# Altium integrated library Connectors.IntLib: 18 symbols
Pins are listed as number, name and electrical type; pins without a type are passive.

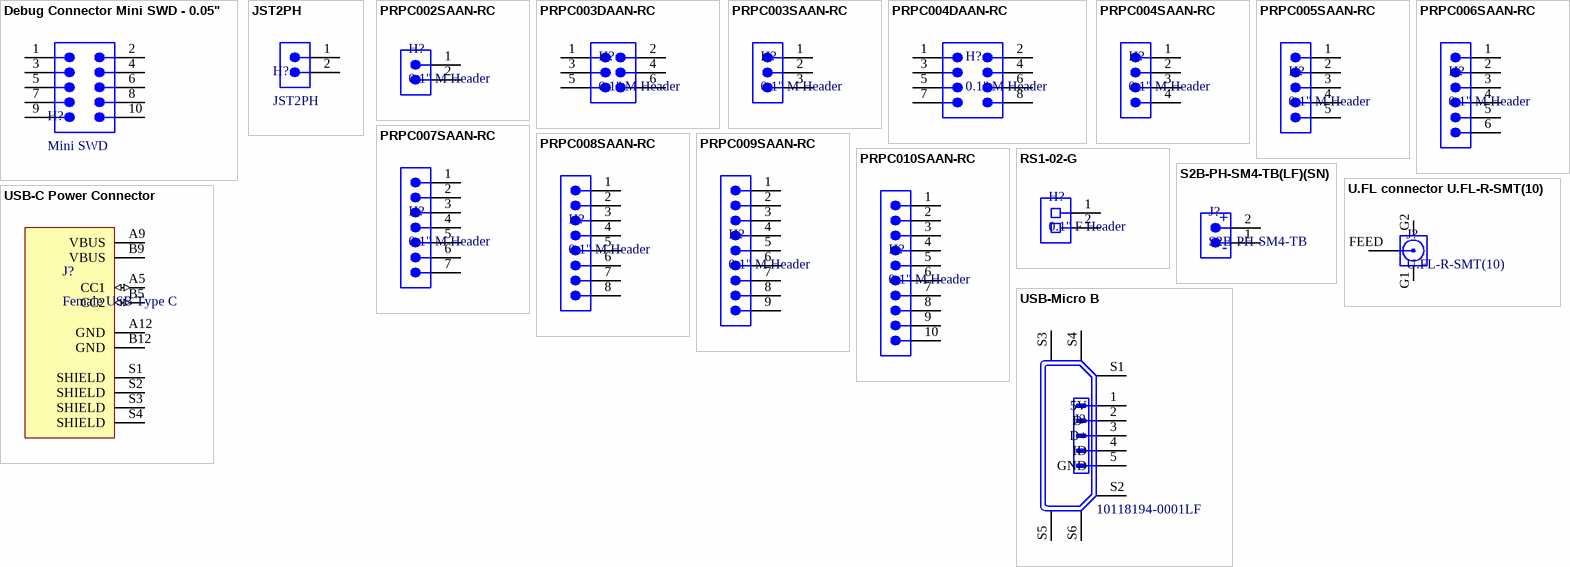
[diagram p0: symbols Debug Connector Mini SWD - 0.05" to USB-Micro B]

## Debug Connector Mini SWD - 0.05"
designator H?, comment Mini SWD
Mini SWD 0.05" Pitch Connector - 10 Pin SMT Box Header; Manufacturer: Adafruit Industries; Manufacturer Part Number: 4048; Supplier 1: Digi-Key; RoHS: No; Category: Connectors; Stock 1: 201; Pricing 1: 1=1.95000 (USD); ComponentLink1URL: https://media.digikey.com/pdf/Data%20Sheets/Adafruit%20PDFs/4048_Web.pdf?src-supplier=Digi-Key; ComponentLink1Description: https://media.digikey.com/pdf/Data%20Sheets/Adafruit%20PDFs/4048_Web.pdf?src-supplier=Digi-Key
footprint FTSH-105-01-XXX-DV-K
pins: 1, 2, 3, 4, 5, 6, 7, 8, 9, 10

## JST2PH
designator H?
Connector Header Through Hole 2 position 0.079" (2.00mm); Manufacturer: JST; Manufacturer Part Number: B2B-PH-K-S; Supplier: Digi-Key; Supplier Part Number: 455-1704-ND; RoHS: Yes; Category: Connectors; Stock: 1077617; Pricing: 1=0.19, 10=0.147, 100=0.1088, 500=0.09006, 1000=0.0788, 5000=0.06754, 10000=0.06567 (USD); ComponentLink1URL: https://datasheet.ciiva.com/6905/phseries-6905929.pdf?src-supplier=Digi-Key; ComponentLink1Description: https://datasheet.ciiva.com/6905/phseries-6905929.pdf?src-supplier=Digi-Key
footprint JST_B2B-PH-K-S(LF)(SN)
pins: 1, 2

## PRPC002SAAN-RC
designator H?, comment 0.1" M Header
CONN HEADER VERT 2POS 2.54MM; Manufacturer: Sullins; Manufacturer Part Number: PRPC002SAAN-RC; Connector Type: Header, Unshrouded, Breakaway; Number of Positions: 2; Number of Positions Loaded: All; Pitch: 0.100" (2.54mm); Online Catalog: 0.100" (2.54mm) Pitch Connector Headers; Other Names: S9510E-02  S9510E-02-ND; Supplier 1: Digi-Key; Stock 1: 42739; Pricing 1: 1=0.08, 10=0.073, 25=0.054, 50=0.0464, 100=0.0449, 250=0.0387, 500=0.0372 (USD); Standard Package: 1; Category: Connectors, Interconnects; Family: Rectangular Connectors - Headers, Male Pins; Series: -; Packaging: Bulk; Contact Type: Male Pin; Number of Rows: 1; Row Spacing: -; Contact Mating Length: 0.230" (5.84mm); Mounting Type: Through Hole; Termination: Solder; Fastening Type: -; Features: -; Contact Finish: Gold; Contact Finish Thickness: Flash; Color: Black; ComponentLink1URL: https://media.digikey.com/PDF/Data%20Sheets/Sullins%20PDFs/xRxCzzzSxxN-RC_ST_11635-B.pdf?src-supplier=Digi-Key; ComponentLink1Description: https://media.digikey.com/PDF/Data%20Sheets/Sullins%20PDFs/xRxCzzzSxxN-RC_ST_11635-B.pdf?src-supplier=Digi-Key; Supplier Part Number 1: S1011EC-02-ND
footprint 2-PIN_MALE_HEADER_01-IN (Terminal Assembly, 1x2 Pins, Vertical, 2.54mm Pitch, Male)
pins: 1, 2

## PRPC003DAAN-RC
designator H?, comment 0.1" M Header
CONN HEADER Dual 6POS 2.54MM; Manufacturer: Sullins; Manufacturer Part Number: PRPC003DAAN-RC; Connector Type: Header, Unshrouded, Breakaway; Number of Positions: 6; Number of Positions Loaded: All; Pitch: 0.100" (2.54mm); Online Catalog: 0.100" (2.54mm) Pitch Connector Headers; Other Names: S9511E-03  S9511E-03-ND; Supplier 1: Digi-Key; Stock 1: 4304; Pricing 1: 1=0.19, 10=0.174, 25=0.1488, 50=0.13, 100=0.1207, 250=0.1068, 500=0.1022 (USD); Standard Package: 1; Category: Connectors, Interconnects; Family: Rectangular Connectors - Headers, Male Pins; Series: -; Packaging: Bulk; Contact Type: Male Pin; Number of Rows: 2; Row Spacing: 0.100" (2.54mm); Contact Mating Length: 0.230" (5.84mm); Mounting Type: Through Hole; Termination: Solder; Fastening Type: -; Features: -; Contact Finish: Gold; Contact Finish Thickness: Flash; Color: Black; ComponentLink1URL: https://drawings-pdf.s3.amazonaws.com/11636.pdf?src-supplier=Digi-Key; ComponentLink1Description: https://drawings-pdf.s3.amazonaws.com/11636.pdf?src-supplier=Digi-Key; Supplier Part Number 1: S2011EC-03-ND
footprint 6-PIN_DUAL_MALE_HEADER_01-IN (Terminal Assembly, 2x3 Pins, Vertical, 2.54mm Pitch, Male)
pins: 1, 2, 3, 4, 5, 6

## PRPC003SAAN-RC
designator H?, comment 0.1" M Header
CONN HEADER VERT 3POS 2.54MM; Manufacturer: Sullins; Manufacturer Part Number: PRPC003SAAN-RC; Connector Type: Header, Unshrouded, Breakaway; Number of Positions: 3; Number of Positions Loaded: All; Pitch: 0.100" (2.54mm); Online Catalog: 0.100" (2.54mm) Pitch Connector Headers; Other Names: S9510E-03  S9510E-03-ND; Supplier 1: Digi-Key; Stock 1: 19067; Pricing 1: 1=0.12, 10=0.109, 25=0.0812, 50=0.0696, 100=0.0673, 250=0.058, 500=0.0557 (USD); Standard Package: 1; Category: Connectors, Interconnects; Family: Rectangular Connectors - Headers, Male Pins; Series: -; Packaging: Bulk; Contact Type: Male Pin; Number of Rows: 1; Row Spacing: -; Contact Mating Length: 0.230" (5.84mm); Mounting Type: Through Hole; Termination: Solder; Fastening Type: -; Features: -; Contact Finish: Gold; Contact Finish Thickness: Flash; Color: Black; ComponentLink1URL: https://media.digikey.com/PDF/Data%20Sheets/Sullins%20PDFs/xRxCzzzSxxN-RC_ST_11635-B.pdf?src-supplier=Digi-Key; ComponentLink1Description: https://media.digikey.com/PDF/Data%20Sheets/Sullins%20PDFs/xRxCzzzSxxN-RC_ST_11635-B.pdf?src-supplier=Digi-Key; Supplier Part Number 1: S1011EC-03-ND
footprint 3-PIN_MALE_HEADER_01-IN (.025 SQ Post Terminal Strip Assembly, 1x3 Pins, Vertical, 2.54mm Pitch, Male)
pins: 1, 2, 3

## PRPC004DAAN-RC
designator H?, comment 0.1" M Header
CONN HEADER DUAL 8POS 2.54MM; Manufacturer: Sullins; Manufacturer Part Number: PRPC004DAAN-RC; Connector Type: Header, Unshrouded, Breakaway; Number of Positions: 8; Number of Positions Loaded: All; Pitch: 0.100" (2.54mm); Online Catalog: 0.100" (2.54mm) Pitch Connector Headers; Other Names: S9511E-04  S9511E-04-ND; Supplier 1: Digi-Key; Stock 1: 4816; Pricing 1: 1=0.25, 10=0.232, 25=0.198, 50=0.1734, 100=0.161, 250=0.1424, 500=0.1362 (USD); Standard Package: 1; Category: Connectors, Interconnects; Family: Rectangular Connectors - Headers, Male Pins; Series: -; Packaging: Bulk; Contact Type: Male Pin; Number of Rows: 2; Row Spacing: 0.100" (2.54mm); Contact Mating Length: 0.230" (5.84mm); Mounting Type: Through Hole; Termination: Solder; Fastening Type: -; Features: -; Contact Finish: Gold; Contact Finish Thickness: Flash; Color: Black; ComponentLink1URL: https://s3.amazonaws.com/catalogspreads-pdf/PAGE110-111%20.100%20MALE%20HDR%20ST.pdf?src-supplier=Digi-Key; ComponentLink1Description: https://s3.amazonaws.com/catalogspreads-pdf/PAGE110-111%20.100%20MALE%20HDR%20ST.pdf?src-supplier=Digi-Key; Supplier Part Number 1: S2011EC-04-ND
footprint 8-PIN_DUAL_MALE_HEADER_01-IN (Assembly .025" [.64] SQ Post Terminal Strip, 2x4 Pins, Vertical, 2.54mm Pitch, Male)
pins: 1, 2, 3, 4, 5, 6, 7, 8

## PRPC004SAAN-RC
designator H?, comment 0.1" M Header
CONN HEADER VERT 4POS 2.54MM; Manufacturer: Sullins; Manufacturer Part Number: PRPC004SAAN-RC; Connector Type: Header, Unshrouded, Breakaway; Number of Positions: 4; Number of Positions Loaded: All; Pitch: 0.100" (2.54mm); Online Catalog: 0.100" (2.54mm) Pitch Connector Headers; Other Names: S9510E-04  S9510E-04-ND; Supplier 1: Digi-Key; Stock 1: 6306; Pricing 1: 1=0.15, 10=0.146, 25=0.1084, 50=0.0928, 100=0.0898, 250=0.0774, 500=0.0743 (USD); Standard Package: 1; Category: Connectors, Interconnects; Family: Rectangular Connectors - Headers, Male Pins; Series: -; Packaging: Bulk; Contact Type: Male Pin; Number of Rows: 1; Row Spacing: -; Contact Mating Length: 0.230" (5.84mm); Mounting Type: Through Hole; Termination: Solder; Fastening Type: -; Features: -; Contact Finish: Gold; Contact Finish Thickness: Flash; Color: Black; ComponentLink1URL: https://media.digikey.com/PDF/Data%20Sheets/Sullins%20PDFs/xRxCzzzSxxN-RC_ST_11635-B.pdf?src-supplier=Digi-Key; ComponentLink1Description: https://media.digikey.com/PDF/Data%20Sheets/Sullins%20PDFs/xRxCzzzSxxN-RC_ST_11635-B.pdf?src-supplier=Digi-Key; Supplier Part Number 1: S1011EC-04-ND
footprint 4-PIN_MALE_HEADER_01-IN (Assembly .025" [.64] SQ Post Terminal Strip, 1x4 Pins, Vertical, 2.54mm Pitch, Male)
pins: 1, 2, 3, 4

## PRPC005SAAN-RC
designator H?, comment 0.1" M Header
CONN HEADER VERT 5POS 2.54MM; Manufacturer: Sullins; Manufacturer Part Number: PRPC005SAAN-RC; Connector Type: Header, Unshrouded, Breakaway; Number of Positions: 5; Number of Positions Loaded: All; Pitch: 0.100" (2.54mm); Online Catalog: 0.100" (2.54mm) Pitch Connector Headers; Other Names: S9510E-05  S9510E-05-ND; Supplier 1: Digi-Key; Stock 1: 9728; Pricing 1: 1=0.19, 10=0.182, 25=0.1356, 50=0.1162, 100=0.1122, 250=0.0968, 500=0.0929 (USD); Standard Package: 1; Category: Connectors, Interconnects; Family: Rectangular Connectors - Headers, Male Pins; Series: -; Packaging: Bulk; Contact Type: Male Pin; Number of Rows: 1; Row Spacing: -; Contact Mating Length: 0.230" (5.84mm); Mounting Type: Through Hole; Termination: Solder; Fastening Type: -; Features: -; Contact Finish: Gold; Contact Finish Thickness: Flash; Color: Black; ComponentLink1URL: https://media.digikey.com/PDF/Data%20Sheets/Sullins%20PDFs/xRxCzzzSxxN-RC_ST_11635-B.pdf?src-supplier=Digi-Key; ComponentLink1Description: https://media.digikey.com/PDF/Data%20Sheets/Sullins%20PDFs/xRxCzzzSxxN-RC_ST_11635-B.pdf?src-supplier=Digi-Key; Supplier Part Number 1: S1011EC-05-ND
footprint 5-PIN_MALE_HEADER_01-IN (Press Fit Socket Assembly, 1x5 Pins, Vertical, 2.54mm Pitch, Male)
pins: 1, 2, 3, 4, 5

## PRPC006SAAN-RC
designator H?, comment 0.1" M Header
CONN HEADER VERT 6POS 2.54MM; Manufacturer: Sullins; Manufacturer Part Number: PRPC006SAAN-RC; Connector Type: Header, Unshrouded, Breakaway; Number of Positions: 6; Number of Positions Loaded: All; Pitch: 0.100" (2.54mm); Online Catalog: 0.100" (2.54mm) Pitch Connector Headers; Other Names: S9510E-06  S9510E-06-ND; Supplier 1: Digi-Key; Stock 1: 1567; Pricing 1: 1=0.19, 10=0.174, 25=0.1488, 50=0.13, 100=0.1207, 250=0.1068, 500=0.1022 (USD); Standard Package: 1; Category: Connectors, Interconnects; Family: Rectangular Connectors - Headers, Male Pins; Series: -; Packaging: Bulk; Contact Type: Male Pin; Number of Rows: 1; Row Spacing: -; Contact Mating Length: 0.230" (5.84mm); Mounting Type: Through Hole; Termination: Solder; Fastening Type: -; Features: -; Contact Finish: Gold; Contact Finish Thickness: Flash; Color: Black; ComponentLink1URL: https://media.digikey.com/PDF/Data%20Sheets/Sullins%20PDFs/xRxCzzzSxxN-RC_ST_11635-B.pdf?src-supplier=Digi-Key; ComponentLink1Description: https://media.digikey.com/PDF/Data%20Sheets/Sullins%20PDFs/xRxCzzzSxxN-RC_ST_11635-B.pdf?src-supplier=Digi-Key; Supplier Part Number 1: S1011EC-06-ND
footprint 6-PIN_MALE_HEADER_01-IN (Assembly .025" [.64] SQ Post Terminal Strip, 1x6 Pins, Vertical, 2.54mm Pitch, Male)
pins: 1, 2, 3, 4, 5, 6

## PRPC007SAAN-RC
designator H?, comment 0.1" M Header
CONN HEADER VERT 7POS 2.54MM; Manufacturer: Sullins; Manufacturer Part Number: PRPC007SAAN-RC; Connector Type: Header, Unshrouded, Breakaway; Number of Positions: 7; Number of Positions Loaded: All; Pitch: 0.100" (2.54mm); Online Catalog: 0.100" (2.54mm) Pitch Connector Headers; Other Names: S9510E-07  S9510E-07-ND; Supplier 1: Digi-Key; Stock 1: 5250; Pricing 1: 1=0.22, 10=0.203, 25=0.1732, 50=0.1518, 100=0.1409, 250=0.1246, 500=0.1192 (USD); Standard Package: 1; Category: Connectors, Interconnects; Family: Rectangular Connectors - Headers, Male Pins; Series: -; Packaging: Bulk; Contact Type: Male Pin; Number of Rows: 1; Row Spacing: -; Contact Mating Length: 0.230" (5.84mm); Mounting Type: Through Hole; Termination: Solder; Fastening Type: -; Features: -; Contact Finish: Gold; Contact Finish Thickness: Flash; Color: Black; ComponentLink1URL: https://media.digikey.com/PDF/Data%20Sheets/Sullins%20PDFs/xRxCzzzSxxN-RC_ST_11635-B.pdf?src-supplier=Digi-Key; ComponentLink1Description: https://media.digikey.com/PDF/Data%20Sheets/Sullins%20PDFs/xRxCzzzSxxN-RC_ST_11635-B.pdf?src-supplier=Digi-Key; Supplier Part Number 1: S1011EC-07-ND
footprint 7-PIN_MALE_HEADER_01-IN (.025 SQ Post Terminal Strip Assembly, 1x7 Pins, Vertical, 2.54mm Pitch, Male)
pins: 1, 2, 3, 4, 5, 6, 7

## PRPC008SAAN-RC
designator H?, comment 0.1" M Header
CONN HEADER VERT 8POS 2.54MM; Manufacturer: Sullins; Manufacturer Part Number: PRPC008SAAN-RC; Connector Type: Header, Unshrouded, Breakaway; Number of Positions: 8; Number of Positions Loaded: All; Pitch: 0.100" (2.54mm); Online Catalog: 0.100" (2.54mm) Pitch Connector Headers; Other Names: S9510E-08  S9510E-08-ND; Supplier 1: Digi-Key; Stock 1: 5089; Pricing 1: 1=0.25, 10=0.232, 25=0.198, 50=0.1734, 100=0.161, 250=0.1424, 500=0.1362 (USD); Standard Package: 1; Category: Connectors, Interconnects; Family: Rectangular Connectors - Headers, Male Pins; Series: -; Packaging: Bulk; Contact Type: Male Pin; Number of Rows: 1; Row Spacing: -; Contact Mating Length: 0.230" (5.84mm); Mounting Type: Through Hole; Termination: Solder; Fastening Type: -; Features: -; Contact Finish: Gold; Contact Finish Thickness: Flash; Color: Black; ComponentLink1URL: https://media.digikey.com/PDF/Data%20Sheets/Sullins%20PDFs/xRxCzzzSxxN-RC_ST_11635-B.pdf?src-supplier=Digi-Key; ComponentLink1Description: https://media.digikey.com/PDF/Data%20Sheets/Sullins%20PDFs/xRxCzzzSxxN-RC_ST_11635-B.pdf?src-supplier=Digi-Key; Supplier Part Number 1: S1011EC-08-ND
footprint 8-PIN_MALE_HEADER_01-IN (Press Fit Socket Assembly, 1x8 Pins, Vertical, 2.54mm Pitch, Male)
pins: 1, 2, 3, 4, 5, 6, 7, 8

## PRPC009SAAN-RC
designator H?, comment 0.1" M Header
CONN HEADER VERT 9POS 2.54MM; Manufacturer: Sullins; Manufacturer Part Number: PRPC009SAAN-RC; Connector Type: Header, Unshrouded, Breakaway; Number of Positions: 9; Number of Positions Loaded: All; Pitch: 0.100" (2.54mm); Online Catalog: 0.100" (2.54mm) Pitch Connector Headers; Other Names: S9510E-09  S9510E-09-ND; Supplier 1: Digi-Key; Stock 1: 1505; Pricing 1: 1=0.28, 10=0.261, 25=0.2228, 50=0.195, 100=0.1811, 250=0.1602, 500=0.1533 (USD); Standard Package: 1; Category: Connectors, Interconnects; Family: Rectangular Connectors - Headers, Male Pins; Series: -; Packaging: Bulk; Contact Type: Male Pin; Number of Rows: 1; Row Spacing: -; Contact Mating Length: 0.230" (5.84mm); Mounting Type: Through Hole; Termination: Solder; Fastening Type: -; Features: -; Contact Finish: Gold; Contact Finish Thickness: Flash; Color: Black; ComponentLink1URL: https://media.digikey.com/PDF/Data%20Sheets/Sullins%20PDFs/xRxCzzzSxxN-RC_ST_11635-B.pdf?src-supplier=Digi-Key; ComponentLink1Description: https://media.digikey.com/PDF/Data%20Sheets/Sullins%20PDFs/xRxCzzzSxxN-RC_ST_11635-B.pdf?src-supplier=Digi-Key; Supplier Part Number 1: S1011EC-09-ND
footprint 9-PIN_MALE_HEADER_01-IN (Press Fit Socket Assembly, 1x10 Pins, Vertical, 2.54mm Pitch, Male)
pins: 1, 2, 3, 4, 5, 6, 7, 8, 9

## PRPC010SAAN-RC
designator H?, comment 0.1" M Header
CONN HEADER VERT 10POS 2.54MM; Manufacturer: Sullins; Manufacturer Part Number: PRPC010SAAN-RC; Connector Type: Header, Unshrouded; Number of Positions: 10; Number of Positions Loaded: All; Pitch: 0.100" (2.54mm); Dynamic Catalog: 0.100" (2.54mm) Headers; Other Names: S9510E-10 / S9510E-10-ND; Supplier 1: Digi-Key; Stock 1: 2153; Pricing 1: 1=0.29, 10=0.271, 25=0.2324, 50=0.1974, 100=0.1896, 250=0.1703, 500=0.1625 (USD); Standard Package: 1; Category: Connectors, Interconnects; Family: Rectangular Connectors - Headers, Male Pins; Contact Type: Male Pin; Number of Rows: 1; Contact Mating Length: 0.230" (5.84mm); Mounting Type: Through Hole; Termination: Solder; Contact Finish: Gold; Contact Finish Thickness: Flash; Color: Black; Packaging: Bulk; ComponentLink1URL: https://media.digikey.com/PDF/Data%20Sheets/Sullins%20PDFs/xRxCzzzSxxN-RC_ST_11635-B.pdf?src-supplier=Digi-Key; ComponentLink1Description: https://media.digikey.com/PDF/Data%20Sheets/Sullins%20PDFs/xRxCzzzSxxN-RC_ST_11635-B.pdf?src-supplier=Digi-Key; Supplier Part Number 1: S1011EC-10-ND
footprint 10-PIN_MALE_HEADER_01-IN (Press Fit Socket Assembly, 1x10 Pins, Vertical, 2.54mm Pitch, Male)
pins: 1, 2, 3, 4, 5, 6, 7, 8, 9, 10

## RS1-02-G
designator H?, comment 0.1" F Header
RECEPTACLE STRIP 2P 2.54MM PITCH; Manufacturer: Adam Equipment; Manufacturer Part Number: RS1-02-G; Supplier 1: Digi-Key; Supplier Part Number 1: 2057-RS1-02-G-ND; Stock 1: 2558; Pricing 1: 1=0.17, 10=0.159, 100=0.1103, 500=0.0933, 1000=0.0764, 5000=0.0679, 10000=0.0615 (USD)
footprint 2-PIN_FEMALE_HEADER_01-IN (Terminal Assembly, 1x2 Pins, Vertical, 2.54mm Pitch, Male)
pins: 1, 2

## S2B-PH-SM4-TB(LF)(SN)
designator J?, comment S2B-PH-SM4-TB
JST PH Series, 2 Position, Side Entry, 2.00mm, Solder, Surface Mount, Natural; Manufacturer Part Number: S2B-PH-SM4-TB(LF)(SN); Supplier 1: Digi-Key; Manufacturer: JST; Stock 1: 117838; Pricing 1: 1=0.58000, 10=0.54700, 100=0.41940, 500=0.36470 (USD); ComponentLink1URL: http://datasheet.octopart.com/S2B-PH-SM4-TB%28LF%29%28SN%29-JST-datasheet-10411123.pdf?src-supplier=Future+Electronics; ComponentLink1Description: http://datasheet.octopart.com/S2B-PH-SM4-TB%28LF%29%28SN%29-JST-datasheet-10411123.pdf?src-supplier=Future+Electronics; ComponentLink2URL: http://datasheet.octopart.com/S2B-PH-SM4-TB%28LF%29%28SN%29-JST-datasheet-8324864.pdf?src-supplier=Future+Electronics; ComponentLink2Description: http://datasheet.octopart.com/S2B-PH-SM4-TB%28LF%29%28SN%29-JST-datasheet-8324864.pdf?src-supplier=Future+Electronics; ComponentLink3URL: http://datasheet.octopart.com/S2B-PH-SM4-TB%28LF%29%28SN%29-JST-datasheet-15068535.pdf?src-supplier=Newark; ComponentLink3Description: http://datasheet.octopart.com/S2B-PH-SM4-TB%28LF%29%28SN%29-JST-datasheet-15068535.pdf?src-supplier=Newark; ComponentLink4URL: http://datasheet.octopart.com/S2B-PH-SM4-TB%28LF%29%28SN%29-JST-datasheet-56537.pdf?src-supplier=Future+Electronics; ComponentLink4Description: http://datasheet.octopart.com/S2B-PH-SM4-TB%28LF%29%28SN%29-JST-datasheet-56537.pdf?src-supplier=Future+Electronics; ComponentLink5URL: http://datasheet.octopart.com/S2B-PH-SM4-TB%28LF%29%28SN%29-JST-datasheet-515537.pdf?src-supplier=Farnell; ComponentLink5Description: http://datasheet.octopart.com/S2B-PH-SM4-TB%28LF%29%28SN%29-JST-datasheet-515537.pdf?src-supplier=Farnell; ComponentLink6URL: http://datasheet.octopart.com/S2B-PH-SM4-TB%28LF%29%28SN%29-JST-datasheet-12510261.pdf?src-supplier=Future+Electronics; ComponentLink6Description: http://datasheet.octopart.com/S2B-PH-SM4-TB%28LF%29%28SN%29-JST-datasheet-12510261.pdf?src-supplier=Future+Electronics; Supplier Part Number 1: 455-1749-1-ND
footprint S2B-PH-SM4-TB
pins: 1 -, 2 +

## U.FL connector U.FL-R-SMT(10)
designator J?, comment U.FL-R-SMT(10)
CONN UMC JACK STR 50 OHM SMD; Manufacturer: Hirose Electric Co Ltd; Connector Style: U.FL; Connector Type: Jack, Male Pin; Contact Termination: Solder; Impedance: 50 Ohm; Frequency - Max: 6GHz; Body Material: Phosphor Bronze; Body Finish: Silver; Center Contact Plating: Gold; Dielectric Material: Liquid Crystal Polymer (LCP); Gender: Plug; Brand: Hirose Connector; Maximum Frequency: 6 GHz; Supplier 1: Digi-Key; RoHS: RoHS Compliant; Category: Connectors, Interconnects; Stock 1: 132773; Pricing 1: 1=1.33, 10=1.173, 25=1.104, 50=1.058, 100=1.012, 250=0.92004, 500=0.82804, 1000=0.7216 (USD); Packaging: Cut Tape (CT); Shield Termination: Solder; Mounting Type: Surface Mount; Cable Group: -; Fastening Type: Snap-On; Features: -; Housing Color: Silver; Ingress Protection: -; Center Contact Material: Phosphor Bronze; Voltage Rating: -; Operating Temperature: -40°C ~ 90°C; ComponentLink1URL: http://media.digikey.com/pdf/Data%20Sheets/Hirose%20PDFs/UFL%20Series.pdf; ComponentLink1Description: http://media.digikey.com/pdf/Data%20Sheets/Hirose%20PDFs/UFL%20Series.pdf; Supplier 2: Mouser; Stock 2: 89108; Pricing 2: 1=1.75, 10=1.40, 100=1.34, 250=1.22, 500=1.12, 1000=0.974, 2500=0.882, 5000=0.852, 10000=0.792 (AUD); Contact Plating: Gold; Operating Temperature Range: - 40 C to + 90 C; Orientation: Vertical; Product: Connectors; Series: U.FL; Termination Style: Solder; Contact Material: Brass; Product Category: Coaxial Connectors; Standard Pack Qty: 2500; Tradename: U.FL; RoHS - Mouser: Y; Minimum Order Quantity: 1; Reeling: True; ComponentLink2URL: http://www.hirose.co.jp/cataloge_hp/ed_UFL_20141014.pdf; ComponentLink2Description: http://www.hirose.co.jp/cataloge_hp/ed_UFL_20141014.pdf; Supplier Part Number 1: H9161CT-ND; Supplier Part Number 2: 798-U.FL-R-SMT10; Manufacturer Part Number: U.FL-R-SMT(10)
footprint U.FL_connector
pins: FEED, G1 GND1 (power), G2 GND2 (power)

## USB-C Power Connector
designator J?, comment Female USB Type C
USB-C (USB TYPE-C) Receptacle Connector 24 (6+18 Dummy) Position Surface Mount, Right Angle; Through Hole; Manufacturer Part Number: USB4125-GF-A_REVA2; Package: None; Availability: Unavailable; Value: *; Price: None
footprint GCT_USB4125-GF-A_REVA2
pins: A5 CC1 (io), A9 VBUS (power), A12 GND, B5 CC2 (io), B9 VBUS (power), B12 GND, S1 SHIELD, S2 SHIELD, S3 SHIELD, S4 SHIELD

## USB-Micro B
designator J?, comment Manufacturer Part Number: 10118194-0001LF  (hidden comment: micro-USB)
10118194-0001LF micro-USB paste-in-pad; Manufacturer: FCI; Connector Type: USB - micro B; Number of Contacts: 5; Gender: Receptacle; Specifications: USB 2.0; Current Rating: 1.8 A; Mounting Angle: Right; Insulation Resistance: 1000 MOhms; .Creator: Kailey Shara; .SCHchecked: KS; Supplier 1: Digi-Key; RoHS: RoHS Compliant; Category: Connectors, Interconnects; Stock 1: 27978; Pricing 1: 1=0.46, 10=0.433, 25=0.3712, 50=0.3156, 100=0.3032, 250=0.27224, 500=0.25988 (USD); Packaging: Cut Tape (CT); Mounting Type: Surface Mount, Right Angle, Horizontal; Features: Shielded, Solder Retention; Ingress Protection: -; ComponentLink1URL: http://portal.fciconnect.com/Comergent//fci/drawing/10118194.pdf; ComponentLink1Description: http://portal.fciconnect.com/Comergent//fci/drawing/10118194.pdf; Color: Black; Contact Plating: Gold; Operating Temperature Range: - 55 C to + 85 C; Product: Micro USB Type B Connectors; Termination Style: SMD; Brand: FCI; Contact Material: Copper Alloy; Flammability Rating: UL 94 V-0; Standard: USB 2.0; Standard Pack Qty: 1200; Minimum Order Quantity: 1; Reeling: True; Supplier Part Number 1: 609-4618-1-ND; .PCBchecked: KS
footprint AMPHENOL_10118194-0001LF
pins: 1 5V (power), 2 D-, 3 D+, 4 ID, 5 GND (power), S1 GND (power), S2 GND (power), S3 GND (power), S4 GND (power), S5 GND (power), S6 GND (power)